# Altium footprint library SnapEDApcb.PcbLib: 1 footprints
Each footprint in its own frame and in the unit in brackets; x right, y up, seen from the top. Pads: shape width x height; smd on the part's side, far side on the other; paste and mask are expansions set on the pad; w line width, h text height; cw(c..) or ccw(c..) is an arc to the next point about the centre after c.
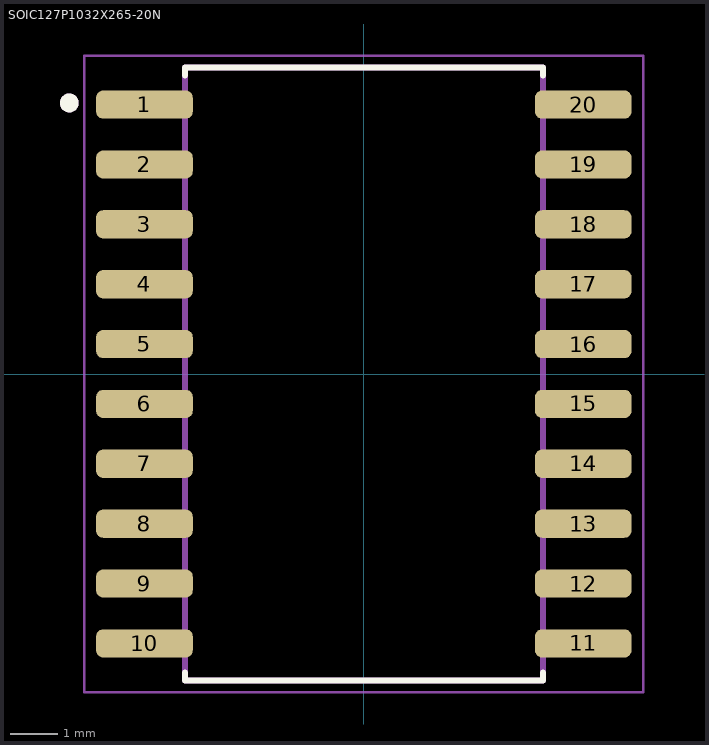
[diagram p0: the footprint, top view; thin cyan lines are the x and y axes]

## SOIC127P1032X265-20N [mm]
pads (20):
  rrect50% 2.05x0.6 smd: 1(-4.655,5.715) 2(-4.655,4.445) 3(-4.655,3.175) 4(-4.655,1.905) 5(-4.655,0.635) 6(-4.655,-0.635) 7(-4.655,-1.905) 8(-4.655,-3.175) 9(-4.655,-4.445) 10(-4.655,-5.715) 11(4.655,-5.715) 12(4.655,-4.445) 13(4.655,-3.175) 14(4.655,-1.905) 15(4.655,-0.635) 16(4.655,0.635) 17(4.655,1.905) 18(4.655,3.175) 19(4.655,4.445) 20(4.655,5.715)
Top Overlay:
  circle w0.2: c-6.25,5.75 r0.1
  lines w0.127: -3.8,-6.33 -3.8,-6.5 3.8,-6.5 3.8,-6.33 ; -3.8,6.33 -3.8,6.5 3.8,6.5 3.8,6.33
Mechanical 13:
  circle w0.2: c-6.25,5.75 r0.1
  lines w0.127: -3.8,-6.5 -3.8,6.5 3.8,6.5 3.8,-6.5 -3.8,-6.5
Mechanical 15:
  lines w0.05: -5.93,-6.75 -5.93,6.75 5.93,6.75 5.93,-6.75 -5.93,-6.75